# Altium footprint library ICs And Semiconductors SMD.PcbLib: 35 footprints (part 1 of 3)
Each footprint in its own frame and in the unit in brackets; x right, y up, seen from the top. Pads: shape width x height; smd on the part's side, far side on the other; paste and mask are expansions set on the pad; w line width, h text height; cw(c..) or ccw(c..) is an arc to the next point about the centre after c.
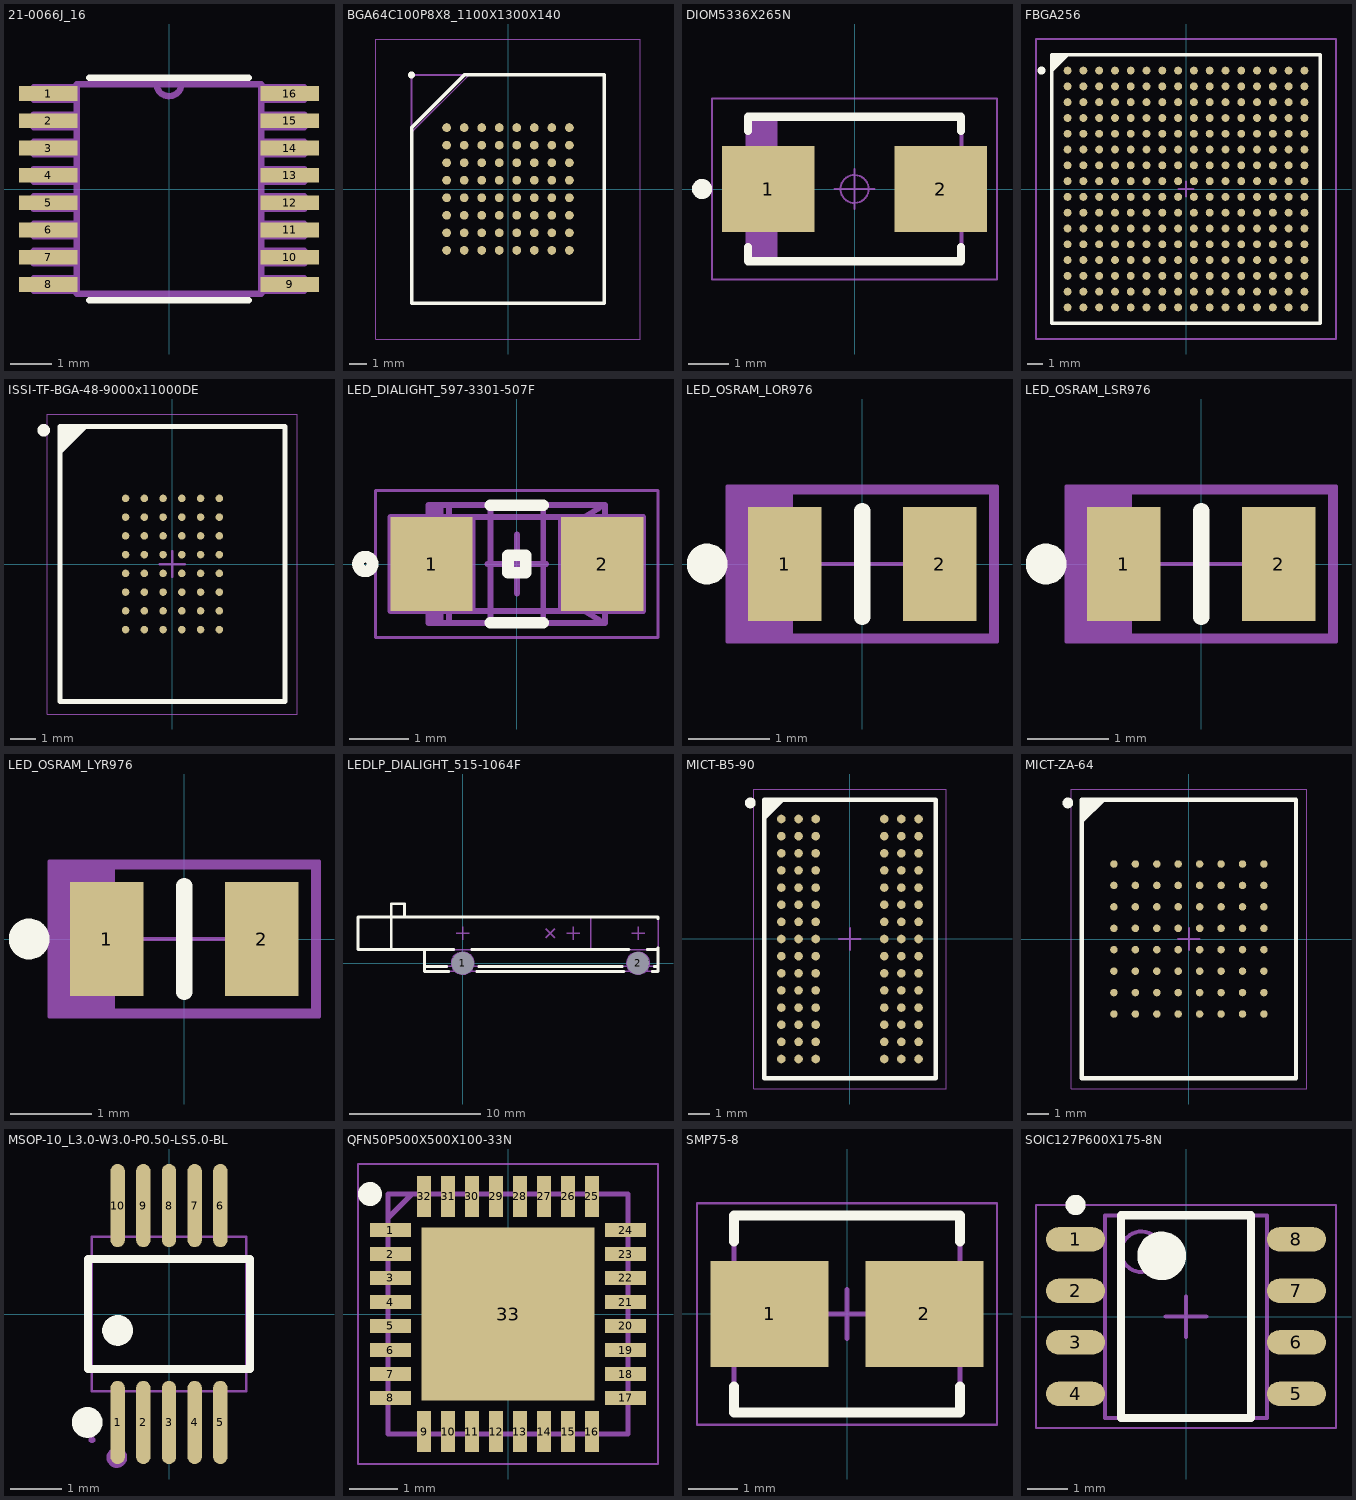
[diagram p0: the footprints below, top view; thin cyan lines are the x and y axes]

## 21-0066J_16 [mil]
pads (16):
  rect 56x14 smd: 1(-115,91) 2(-115,65) 3(-115,39) 4(-115,13) 5(-115,-13) 6(-115,-39) 7(-115,-65) 8(-115,-91) 9(115,-91) 10(115,-65) 11(115,-39) 12(115,-13) 13(115,13) 14(115,39) 15(115,65) 16(115,91)
Top Overlay:
  lines w6: -76,-106 76,-106 ; -76,106 76,106
Mechanical 13:
  lines w6: -12,100.08 ccw(c0,100.5) 12,100.92 ; -129,-97 -129,-85 -88,-85 -88,-97 -129,-97 ; -129,-71 -129,-59 -88,-59 -88,-71 -129,-71 ; -129,-45 -129,-33 -88,-33 -88,-45 -129,-45 ; -129,-19 -129,-7 -88,-7 -88,-19 -129,-19 ; -129,7 -129,19 -88,19 -88,7 -129,7 ; -129,33 -129,45 -88,45 -88,33 -129,33 ; -129,59 -129,71 -88,71 -88,59 -129,59 ; -129,85 -129,97 -88,97 -88,85 -129,85 ; -88,-100 88,-100 88,100 -12,100 -88,100 -88,-100 ; 88,-97 88,-85 129,-85 129,-97 88,-97 ; 88,-71 88,-59 129,-59 129,-71 88,-71 ; 88,-45 88,-33 129,-33 129,-45 88,-45 ; 88,-19 88,-7 129,-7 129,-19 88,-19 ; 88,7 88,19 129,19 129,7 88,7 ; 88,33 88,45 129,45 129,33 88,33 ; 88,59 88,71 129,71 129,59 88,59 ; 88,85 88,97 129,97 129,85 88,85
3D body "step_temp.STEP": height 43.31, standoff 0, extent -125.98,-98.43 125.98,98.43

## BGA64C100P8X8_1100X1300X140 [mm]
pads (64):
  round 0.5 smd: A1(-3.5,3.5) A2(-2.5,3.5) A3(-1.5,3.5) A4(-0.5,3.5) A5(0.5,3.5) A6(1.5,3.5) A7(2.5,3.5) A8(3.5,3.5) B1(-3.5,2.5) B2(-2.5,2.5) B3(-1.5,2.5) B4(-0.5,2.5) B5(0.5,2.5) B6(1.5,2.5) B7(2.5,2.5) B8(3.5,2.5) C1(-3.5,1.5) C2(-2.5,1.5) C3(-1.5,1.5) C4(-0.5,1.5) C5(0.5,1.5) C6(1.5,1.5) C7(2.5,1.5) C8(3.5,1.5) D1(-3.5,0.5) D2(-2.5,0.5) D3(-1.5,0.5) D4(-0.5,0.5) D5(0.5,0.5) D6(1.5,0.5) D7(2.5,0.5) D8(3.5,0.5) E1(-3.5,-0.5) E2(-2.5,-0.5) E3(-1.5,-0.5) E4(-0.5,-0.5) E5(0.5,-0.5) E6(1.5,-0.5) E7(2.5,-0.5) E8(3.5,-0.5) F1(-3.5,-1.5) F2(-2.5,-1.5) F3(-1.5,-1.5) F4(-0.5,-1.5) F5(0.5,-1.5) F6(1.5,-1.5) F7(2.5,-1.5) F8(3.5,-1.5) G1(-3.5,-2.5) G2(-2.5,-2.5) G3(-1.5,-2.5) G4(-0.5,-2.5) G5(0.5,-2.5) G6(1.5,-2.5) G7(2.5,-2.5) G8(3.5,-2.5) H1(-3.5,-3.5) H2(-2.5,-3.5) H3(-1.5,-3.5) H4(-0.5,-3.5) H5(0.5,-3.5) H6(1.5,-3.5) H7(2.5,-3.5) H8(3.5,-3.5)
Top Overlay:
  circle w0.2: c-5.5,6.5 r0.1
  lines w0.2: -5.5,-6.5 -5.5,3.5 -2.5,6.5 5.5,6.5 5.5,-6.5 -5.5,-6.5
Mechanical 15:
  lines w0.1: -5.5,3.225 -2.225,6.5 ; -5.5,-6.5 -5.5,6.5 5.5,6.5 5.5,-6.5 -5.5,-6.5
Mechanical 20:
  lines w0.05: -7.55,-8.55 -7.55,8.55 7.55,8.55 7.55,-8.55 -7.55,-8.55
3D body "MT28EW256ABA1HPC-0SIT.stp": height 1.4, standoff 0, extent -5.5,-6.475 5.5,6.525

## DIOM5336X265N [mm] "DO-214-AA/SMB Diode, Molded Body; 5.34mm L X 3.625mm W X 2.65mm H, IPC Medium Density"
height 2.65
pads (2):
  rect 2.3x2.15 smd: 1(-2.15,0) 2(2.15,0)
Top Overlay:
  circle w0.25: c-3.8,0 r0.125
  lines w0.2: -2.65,-1.45 -2.65,-1.8 2.65,-1.8 2.65,-1.45 ; -2.65,1.45 -2.65,1.8 2.65,1.8 2.65,1.45
Mechanical 14:
  lines w0.1: -2.57,-1.812 -2.57,1.812 ; -2.47,-1.812 -2.47,1.812 ; -2.37,-1.812 -2.37,1.812 ; -2.27,-1.812 -2.27,1.812 ; -2.17,-1.812 -2.17,1.812 ; -2.07,-1.812 -2.07,1.812 ; -1.97,-1.812 -1.97,1.812 ; -2.67,-1.812 2.67,-1.812 2.67,1.812 -2.67,1.812 ; -2.67,-1.812 -2.67,1.812 ; -2.67,-1.812 -2.67,1.812
Mechanical 15:
  circle w0.05: c0,0 r0.35
  lines w0.05: -0.5,0 0.5,0 ; 0,-0.5 0,0.5 ; -3.55,-2.25 3.55,-2.25 3.55,2.25 -3.55,2.25 -3.55,-2.25
3D body "DIOM5336X240N.stp": height 2.4, standoff 0, extent -2.7,-1.95 2.7,1.95

## FBGA256 [mm] "256-Ball FineLine Ball Grid Array (FBGA256) - Option 1"
height 2.2
pads (256):
  round 0.5 smd: A1(-7.5,7.5) A2(-6.5,7.5) A3(-5.5,7.5) A4(-4.5,7.5) A5(-3.5,7.5) A6(-2.5,7.5) A7(-1.5,7.5) A8(-0.5,7.5) A9(0.5,7.5) A10(1.5,7.5) A11(2.5,7.5) A12(3.5,7.5) A13(4.5,7.5) A14(5.5,7.5) A15(6.5,7.5) A16(7.5,7.5) B1(-7.5,6.5) B2(-6.5,6.5) B3(-5.5,6.5) B4(-4.5,6.5) B5(-3.5,6.5) B6(-2.5,6.5) B7(-1.5,6.5) B8(-0.5,6.5) B9(0.5,6.5) B10(1.5,6.5) B11(2.5,6.5) B12(3.5,6.5) B13(4.5,6.5) B14(5.5,6.5) B15(6.5,6.5) B16(7.5,6.5) C1(-7.5,5.5) C2(-6.5,5.5) C3(-5.5,5.5) C4(-4.5,5.5) C5(-3.5,5.5) C6(-2.5,5.5) C7(-1.5,5.5) C8(-0.5,5.5) C9(0.5,5.5) C10(1.5,5.5) C11(2.5,5.5) C12(3.5,5.5) C13(4.5,5.5) C14(5.5,5.5) C15(6.5,5.5) C16(7.5,5.5) D1(-7.5,4.5) D2(-6.5,4.5) D3(-5.5,4.5) D4(-4.5,4.5) D5(-3.5,4.5) D6(-2.5,4.5) D7(-1.5,4.5) D8(-0.5,4.5) D9(0.5,4.5) D10(1.5,4.5) D11(2.5,4.5) D12(3.5,4.5) D13(4.5,4.5) D14(5.5,4.5) D15(6.5,4.5) D16(7.5,4.5) E1(-7.5,3.5) E2(-6.5,3.5) E3(-5.5,3.5) E4(-4.5,3.5) E5(-3.5,3.5) E6(-2.5,3.5) E7(-1.5,3.5) E8(-0.5,3.5) E9(0.5,3.5) E10(1.5,3.5) E11(2.5,3.5) E12(3.5,3.5) E13(4.5,3.5) E14(5.5,3.5) E15(6.5,3.5) E16(7.5,3.5) F1(-7.5,2.5) F2(-6.5,2.5) F3(-5.5,2.5) F4(-4.5,2.5) F5(-3.5,2.5) F6(-2.5,2.5) F7(-1.5,2.5) F8(-0.5,2.5) F9(0.5,2.5) F10(1.5,2.5) F11(2.5,2.5) F12(3.5,2.5) F13(4.5,2.5) F14(5.5,2.5) F15(6.5,2.5) F16(7.5,2.5) G1(-7.5,1.5) G2(-6.5,1.5) G3(-5.5,1.5) G4(-4.5,1.5) G5(-3.5,1.5) G6(-2.5,1.5) G7(-1.5,1.5) G8(-0.5,1.5) G9(0.5,1.5) G10(1.5,1.5) G11(2.5,1.5) G12(3.5,1.5) G13(4.5,1.5) G14(5.5,1.5) G15(6.5,1.5) G16(7.5,1.5) H1(-7.5,0.5) H2(-6.5,0.5) H3(-5.5,0.5) H4(-4.5,0.5) H5(-3.5,0.5) H6(-2.5,0.5) H7(-1.5,0.5) H8(-0.5,0.5) H9(0.5,0.5) H10(1.5,0.5) H11(2.5,0.5) H12(3.5,0.5) H13(4.5,0.5) H14(5.5,0.5) H15(6.5,0.5) H16(7.5,0.5) J1(-7.5,-0.5) J2(-6.5,-0.5) J3(-5.5,-0.5) J4(-4.5,-0.5) J5(-3.5,-0.5) J6(-2.5,-0.5) J7(-1.5,-0.5) J8(-0.5,-0.5) J9(0.5,-0.5) J10(1.5,-0.5) J11(2.5,-0.5) J12(3.5,-0.5) J13(4.5,-0.5) J14(5.5,-0.5) J15(6.5,-0.5) J16(7.5,-0.5) K1(-7.5,-1.5) K2(-6.5,-1.5) K3(-5.5,-1.5) K4(-4.5,-1.5) K5(-3.5,-1.5) K6(-2.5,-1.5) K7(-1.5,-1.5) K8(-0.5,-1.5) K9(0.5,-1.5) K10(1.5,-1.5) K11(2.5,-1.5) K12(3.5,-1.5) K13(4.5,-1.5) K14(5.5,-1.5) K15(6.5,-1.5) K16(7.5,-1.5) L1(-7.5,-2.5) L2(-6.5,-2.5) L3(-5.5,-2.5) L4(-4.5,-2.5) L5(-3.5,-2.5) L6(-2.5,-2.5) L7(-1.5,-2.5) L8(-0.5,-2.5) L9(0.5,-2.5) L10(1.5,-2.5) L11(2.5,-2.5) L12(3.5,-2.5) L13(4.5,-2.5) L14(5.5,-2.5) L15(6.5,-2.5) L16(7.5,-2.5) M1(-7.5,-3.5) M2(-6.5,-3.5) M3(-5.5,-3.5) M4(-4.5,-3.5) M5(-3.5,-3.5) M6(-2.5,-3.5) M7(-1.5,-3.5) M8(-0.5,-3.5) M9(0.5,-3.5) M10(1.5,-3.5) M11(2.5,-3.5) M12(3.5,-3.5) M13(4.5,-3.5) M14(5.5,-3.5) M15(6.5,-3.5) M16(7.5,-3.5) N1(-7.5,-4.5) N2(-6.5,-4.5) N3(-5.5,-4.5) N4(-4.5,-4.5) N5(-3.5,-4.5) N6(-2.5,-4.5) N7(-1.5,-4.5) N8(-0.5,-4.5) N9(0.5,-4.5) N10(1.5,-4.5) N11(2.5,-4.5) N12(3.5,-4.5) N13(4.5,-4.5) N14(5.5,-4.5) N15(6.5,-4.5) N16(7.5,-4.5) P1(-7.5,-5.5) P2(-6.5,-5.5) P3(-5.5,-5.5) P4(-4.5,-5.5) P5(-3.5,-5.5) P6(-2.5,-5.5) P7(-1.5,-5.5) P8(-0.5,-5.5) P9(0.5,-5.5) P10(1.5,-5.5) P11(2.5,-5.5) P12(3.5,-5.5) P13(4.5,-5.5) P14(5.5,-5.5) P15(6.5,-5.5) P16(7.5,-5.5) R1(-7.5,-6.5) R2(-6.5,-6.5) R3(-5.5,-6.5) R4(-4.5,-6.5) R5(-3.5,-6.5) R6(-2.5,-6.5) R7(-1.5,-6.5) R8(-0.5,-6.5) R9(0.5,-6.5) R10(1.5,-6.5) R11(2.5,-6.5) R12(3.5,-6.5) R13(4.5,-6.5) R14(5.5,-6.5) R15(6.5,-6.5) R16(7.5,-6.5) T1(-7.5,-7.5) T2(-6.5,-7.5) T3(-5.5,-7.5) T4(-4.5,-7.5) T5(-3.5,-7.5) T6(-2.5,-7.5) T7(-1.5,-7.5) T8(-0.5,-7.5) T9(0.5,-7.5) T10(1.5,-7.5) T11(2.5,-7.5) T12(3.5,-7.5) T13(4.5,-7.5) T14(5.5,-7.5) T15(6.5,-7.5) T16(7.5,-7.5)
Top Overlay:
  circle w0.25: c-9.15,7.5 r0.125
  region: -7.5,8.5 -8.5,7.5 -8.5,8.5
  lines w0.2: -8.5,7.5 -7.5,8.5 ; -8.5,-8.5 -8.5,8.5 8.5,8.5 8.5,-8.5 -8.5,-8.5
Mechanical 13:
  lines w0.1: -8.5,-8.5 -8.5,8.5 8.5,8.5 8.5,-8.5 -8.5,-8.5
Mechanical 15:
  lines w0.1: -0.5,0 0.5,0 ; 0,-0.5 0,0.5 ; -9.5,-9.5 -9.5,9.5 9.5,9.5 9.5,-9.5 -9.5,-9.5
3D body: height 2.2, standoff 0, extent -8.5,-8.5 8.5,8.5

## ISSI-TF-BGA-48-9000x11000DE [mm] "BGA, 48-Balls, Body 11x9mm, Pitch 0.75mm"
height 1.2
pads (48):
  round 0.3 smd: A1(-1.875,2.625) A2(-1.125,2.625) A3(-0.375,2.625) A4(0.375,2.625) A5(1.125,2.625) A6(1.875,2.625) B1(-1.875,1.875) B2(-1.125,1.875) B3(-0.375,1.875) B4(0.375,1.875) B5(1.125,1.875) B6(1.875,1.875) C1(-1.875,1.125) C2(-1.125,1.125) C3(-0.375,1.125) C4(0.375,1.125) C5(1.125,1.125) C6(1.875,1.125) D1(-1.875,0.375) D2(-1.125,0.375) D3(-0.375,0.375) D4(0.375,0.375) D5(1.125,0.375) D6(1.875,0.375) E1(-1.875,-0.375) E2(-1.125,-0.375) E3(-0.375,-0.375) E4(0.375,-0.375) E5(1.125,-0.375) E6(1.875,-0.375) F1(-1.875,-1.125) F2(-1.125,-1.125) F3(-0.375,-1.125) F4(0.375,-1.125) F5(1.125,-1.125) F6(1.875,-1.125) G1(-1.875,-1.875) G2(-1.125,-1.875) G3(-0.375,-1.875) G4(0.375,-1.875) G5(1.125,-1.875) G6(1.875,-1.875) H1(-1.875,-2.625) H2(-1.125,-2.625) H3(-0.375,-2.625) H4(0.375,-2.625) H5(1.125,-2.625) H6(1.875,-2.625)
Top Overlay:
  circle w0.25: c-5.15,5.35 r0.125
  region: -3.5,5.5 -4.5,4.5 -4.5,5.5
  lines w0.2: -4.5,4.5 -3.5,5.5 ; -4.5,-5.5 -4.5,5.5 4.5,5.5 4.5,-5.5 -4.5,-5.5
Mechanical 13:
  lines w0.1: -4.5,-5.5 -4.5,5.5 4.5,5.5 4.5,-5.5 -4.5,-5.5
Mechanical 15:
  lines w0.05: -5,-6 -5,6 5,6 5,-6 -5,-6
  lines w0.1: -0.5,0 0.5,0 ; 0,-0.5 0,0.5
3D body: height 1.2, standoff 0.2, extent -4.5,-5.5 4.5,5.5

## LED_DIALIGHT_597-3301-507F [mm] "SMT Green LED, Body 3x1.6mm (1208),  DIALIGHT 597 Serie"
height 1.5
pads (2):
  rect 1.4x1.6 smd: 1(-1.45,0) 2(1.45,0)
Top Overlay:
  circle w0.2: c-2.575,0 r0.125
  lines w0.2: -0.45,-1 0.45,-1 ; -0.45,1 0.45,1 ; -0.15,-0.15 0.15,-0.15 0.15,0.15 -0.15,0.15 -0.15,-0.15
Mechanical 8:
  lines w0.1: -1.95,0 -1.45,0 ; -1.45,-0.5 -1.45,0 ; -1.45,0.5 -1.45,0 ; -0.95,0 -1.45,0 ; -0.5,0 0,0 ; -0.45,-1 -0.45,1 ; 0,-0.5 0,0 ; 0,0.5 0,0 ; 0.45,-1 0.45,1 ; 0.5,0 0,0 ; 0.95,0 1.45,0 ; 1.45,-0.5 1.45,0 ; 1.45,0.5 1.45,0 ; 1.95,0 1.45,0 ; -2.15,-0.8 -0.75,-0.8 -0.75,0.8 -2.15,0.8 -2.15,-0.8 ; 0.75,-0.8 2.15,-0.8 2.15,0.8 0.75,0.8 0.75,-0.8
Mechanical 14:
  lines w0.1: -1.4,-1 -1.4,1 ; -1.3,-1 -1.3,1 ; -1.15,-0.95 -1.15,0.95 ; -1.15,-0.8 1.15,-0.8 ; -1.15,0.8 1.15,0.8 ; 1.4,-0.95 1.15,-0.8 ; 1.4,0.95 1.15,0.8 ; 1.15,-0.8 1.15,0.8 ; -1.5,-1 1.5,-1 1.5,1 -1.5,1 -1.5,-1 ; -0.15,-0.15 0.15,-0.15 0.15,0.15 -0.15,0.15 -0.15,-0.15
Mechanical 15:
  lines w0.05: -2.4,-1.25 2.4,-1.25 2.4,1.25 -2.4,1.25 -2.4,-1.25
3D body "LED_DIALIGHT_597-3301-507F.stp": height 1.5, standoff 0, extent -1.5,-1 1.5,1

## LED_OSRAM_LOR976 [mm] "Orange Chip LED, 2-Leads, Body 2.0x1.25mm, IPC Medium Density"
height 0.9
pads (2):
  rect 0.9x1.4 smd: 1(-0.95,0) 2(0.95,0)
Top Overlay:
  circle w0.25: c-1.9,0 r0.125
  lines w0.2: 0,-0.65 0,0.65
Mechanical 14:
  lines w0.1: -1.5,-0.9 -1.5,0.9 ; -1.4,-0.9 -1.4,0.9 ; -1.3,-0.9 -1.3,0.9 ; -1.2,-0.9 -1.2,0.9 ; -1.1,-0.9 -1.1,0.9 ; -1,-0.9 -1,0.9 ; -0.9,-0.9 -0.9,0.9 ; -1.6,-0.9 -1.6,0.9 1.6,0.9 1.6,-0.9 -1.6,-0.9
Mechanical 15:
  lines w0.05: -0.5,0 0.5,0 ; 0,-0.5 0,0.5 ; -1.65,-0.95 -1.65,0.95 1.65,0.95 1.65,-0.95 -1.65,-0.95
3D body "LED_OSRAM_LOR976.stp": height 0.9, standoff 0, extent -1.05,-0.675 1.05,0.675

## LED_OSRAM_LSR976 [mm] "Super Red Chip LED, 2-Leads, Body 2.0x1.25mm, IPC Medium Density"
height 0.9
pads (2):
  rect 0.9x1.4 smd: 1(-0.95,0) 2(0.95,0)
Top Overlay:
  circle w0.25: c-1.9,0 r0.125
  lines w0.2: 0,-0.65 0,0.65
Mechanical 14:
  lines w0.1: -1.5,-0.9 -1.5,0.9 ; -1.4,-0.9 -1.4,0.9 ; -1.3,-0.9 -1.3,0.9 ; -1.2,-0.9 -1.2,0.9 ; -1.1,-0.9 -1.1,0.9 ; -1,-0.9 -1,0.9 ; -0.9,-0.9 -0.9,0.9 ; -1.6,-0.9 1.6,-0.9 1.6,0.9 -1.6,0.9 -1.6,-0.9
Mechanical 15:
  lines w0.05: -0.5,0 0.5,0 ; 0,-0.5 0,0.5 ; -1.65,-0.95 1.65,-0.95 1.65,0.95 -1.65,0.95 -1.65,-0.95
3D body "LED_OSRAM_LSR976.stp": height 0.9, standoff 0, extent -1.05,-0.675 1.05,0.675

## LED_OSRAM_LYR976 [mm] "Yellow Chip LED, 2-Leads, Body 2.0x1.25mm, IPC Medium Density"
height 0.9
pads (2):
  rect 0.9x1.4 smd: 1(-0.95,0) 2(0.95,0)
Top Overlay:
  circle w0.25: c-1.9,0 r0.125
  lines w0.2: 0,-0.65 0,0.65
Mechanical 14:
  lines w0.1: -1.5,-0.9 -1.5,0.9 ; -1.4,-0.9 -1.4,0.9 ; -1.3,-0.9 -1.3,0.9 ; -1.2,-0.9 -1.2,0.9 ; -1.1,-0.9 -1.1,0.9 ; -1,-0.9 -1,0.9 ; -0.9,-0.9 -0.9,0.9 ; -1.6,-0.9 1.6,-0.9 1.6,0.9 -1.6,0.9 -1.6,-0.9
Mechanical 15:
  lines w0.05: -0.5,0 0.5,0 ; 0,-0.5 0,0.5 ; -1.65,-0.95 1.65,-0.95 1.65,0.95 -1.65,0.95 -1.65,-0.95
3D body "LED_OSRAM_LYR976.stp": height 0.9, standoff 0, extent -1.05,-0.675 1.05,0.675

## LEDLP_DIALIGHT_515-1064F [mm] "Right Angle Tri-Level 2.5mm Round Light Pipe, Body 22.9 x5.22mm"
height 13.7
pads (2):
  round 1 hole 1.7 unplated mask+0.35: 1(0,0) 2(13.41,0)
Top Overlay:
  lines w0.2: -5.462,1.041 -5.462,4.547 -4.446,4.547 -4.446,3.531 ; -2.922,-0.254 -1.224,-0.254 ; -1.077,-0.635 -2.922,-0.635 -2.922,1.041 ; -0.691,1.041 -2.922,1.041 ; 0.691,1.041 12.719,1.041 ; 1.077,-0.635 12.333,-0.635 ; 1.224,-0.254 12.186,-0.254 ; 14.101,1.041 14.934,1.041 ; 14.487,-0.635 14.934,-0.635 14.934,1.19 ; 14.634,-0.254 14.934,-0.254 ; 14.934,3.39 14.934,3.531 -8.002,3.531 -8.002,1.041 -2.922,1.041
Mechanical 8:
  circle w0.1: c0,0 r0.85
  circle w0.1: c13.41,0 r0.85
  lines w0.1: -0.5,0 0,0 ; -0.5,2.29 0,2.29 ; 0,-0.5 0,0 ; 0,0.5 0,0 ; 0,1.79 0,2.29 ; 0,2.79 0,2.29 ; 0.5,0 0,0 ; 0.5,2.29 0,2.29 ; 6.351,1.936 6.704,2.29 ; 6.351,2.644 6.704,2.29 ; 7.058,1.936 6.704,2.29 ; 7.058,2.644 6.704,2.29 ; 7.96,2.29 8.46,2.29 ; 8.46,1.79 8.46,2.29 ; 8.46,2.79 8.46,2.29 ; 8.96,2.29 8.46,2.29 ; 12.91,0 13.41,0 ; 12.91,2.29 13.41,2.29 ; 13.41,-0.5 13.41,0 ; 13.41,0.5 13.41,0 ; 13.41,1.79 13.41,2.29 ; 13.41,2.79 13.41,2.29 ; 13.91,0 13.41,0 ; 13.91,2.29 13.41,2.29
Mechanical 14:
  lines w0.1: -5.462,1.041 -5.462,4.547 -4.446,4.547 -4.446,3.531 ; -2.922,-0.254 14.934,-0.254 ; 9.783,1.041 9.783,3.531 ; 14.934,1.041 -2.922,1.041 ; -2.922,1.041 -2.922,-0.635 14.934,-0.635 14.934,3.531 -8.002,3.531 -8.002,1.041 -2.922,1.041
3D body "LEDLP_DIALIGHT_515-1064F.stp": height 13.69, standoff -2.87, extent -8.002,-0.635 14.934,4.547

## MICT-B5-90 [mm] "BGA, 90-Balls, Body 13x8mm, Pitch 0.8mm"
height 1
pads (90):
  round 0.4 smd: A1(-3.2,5.6) A2(-2.4,5.6) A3(-1.6,5.6) A7(1.6,5.6) A8(2.4,5.6) A9(3.2,5.6) B1(-3.2,4.8) B2(-2.4,4.8) B3(-1.6,4.8) B7(1.6,4.8) B8(2.4,4.8) B9(3.2,4.8) C1(-3.2,4) C2(-2.4,4) C3(-1.6,4) C7(1.6,4) C8(2.4,4) C9(3.2,4) D1(-3.2,3.2) D2(-2.4,3.2) D3(-1.6,3.2) D7(1.6,3.2) D8(2.4,3.2) D9(3.2,3.2) E1(-3.2,2.4) E2(-2.4,2.4) E3(-1.6,2.4) E7(1.6,2.4) E8(2.4,2.4) E9(3.2,2.4) F1(-3.2,1.6) F2(-2.4,1.6) F3(-1.6,1.6) F7(1.6,1.6) F8(2.4,1.6) F9(3.2,1.6) G1(-3.2,0.8) G2(-2.4,0.8) G3(-1.6,0.8) G7(1.6,0.8) G8(2.4,0.8) G9(3.2,0.8) H1(-3.2,0) H2(-2.4,0) H3(-1.6,0) H7(1.6,0) H8(2.4,0) H9(3.2,0) J1(-3.2,-0.8) J2(-2.4,-0.8) J3(-1.6,-0.8) J7(1.6,-0.8) J8(2.4,-0.8) J9(3.2,-0.8) K1(-3.2,-1.6) K2(-2.4,-1.6) K3(-1.6,-1.6) K7(1.6,-1.6) K8(2.4,-1.6) K9(3.2,-1.6) L1(-3.2,-2.4) L2(-2.4,-2.4) L3(-1.6,-2.4) L7(1.6,-2.4) L8(2.4,-2.4) L9(3.2,-2.4) M1(-3.2,-3.2) M2(-2.4,-3.2) M3(-1.6,-3.2) M7(1.6,-3.2) M8(2.4,-3.2) M9(3.2,-3.2) N1(-3.2,-4) N2(-2.4,-4) N3(-1.6,-4) N7(1.6,-4) N8(2.4,-4) N9(3.2,-4) P1(-3.2,-4.8) P2(-2.4,-4.8) P3(-1.6,-4.8) P7(1.6,-4.8) P8(2.4,-4.8) P9(3.2,-4.8) R1(-3.2,-5.6) R2(-2.4,-5.6) R3(-1.6,-5.6) R7(1.6,-5.6) R8(2.4,-5.6) R9(3.2,-5.6)
Top Overlay:
  circle w0.25: c-4.65,6.35 r0.125
  region: -3.149,6.5 -4,5.649 -4,6.5
  lines w0.2: -4,5.649 -3.149,6.5 ; -4,-6.5 -4,6.5 4,6.5 4,-6.5 -4,-6.5
Mechanical 13:
  lines w0.1: -4,-6.5 -4,6.5 4,6.5 4,-6.5 -4,-6.5
Mechanical 15:
  lines w0.05: -4.5,-7 -4.5,7 4.5,7 4.5,-7 -4.5,-7
  lines w0.1: -0.5,0 0.5,0 ; 0,-0.5 0,0.5
3D body: height 1, standoff 0.3, extent -4,-6.5 4,6.5

## MICT-ZA-64 [mm] "BGA, 64-Balls, Body 13x10mm, Pitch 1mm"
pads (64):
  round 0.35 smd: A1(-3.5,3.5) A2(-2.5,3.5) A3(-1.5,3.5) A4(-0.5,3.5) A5(0.5,3.5) A6(1.5,3.5) A7(2.5,3.5) A8(3.5,3.5) B1(-3.5,2.5) B2(-2.5,2.5) B3(-1.5,2.5) B4(-0.5,2.5) B5(0.5,2.5) B6(1.5,2.5) B7(2.5,2.5) B8(3.5,2.5) C1(-3.5,1.5) C2(-2.5,1.5) C3(-1.5,1.5) C4(-0.5,1.5) C5(0.5,1.5) C6(1.5,1.5) C7(2.5,1.5) C8(3.5,1.5) D1(-3.5,0.5) D2(-2.5,0.5) D3(-1.5,0.5) D4(-0.5,0.5) D5(0.5,0.5) D6(1.5,0.5) D7(2.5,0.5) D8(3.5,0.5) E1(-3.5,-0.5) E2(-2.5,-0.5) E3(-1.5,-0.5) E4(-0.5,-0.5) E5(0.5,-0.5) E6(1.5,-0.5) E7(2.5,-0.5) E8(3.5,-0.5) F1(-3.5,-1.5) F2(-2.5,-1.5) F3(-1.5,-1.5) F4(-0.5,-1.5) F5(0.5,-1.5) F6(1.5,-1.5) F7(2.5,-1.5) F8(3.5,-1.5) G1(-3.5,-2.5) G2(-2.5,-2.5) G3(-1.5,-2.5) G4(-0.5,-2.5) G5(0.5,-2.5) G6(1.5,-2.5) G7(2.5,-2.5) G8(3.5,-2.5) H1(-3.5,-3.5) H2(-2.5,-3.5) H3(-1.5,-3.5) H4(-0.5,-3.5) H5(0.5,-3.5) H6(1.5,-3.5) H7(2.5,-3.5) H8(3.5,-3.5)
Top Overlay:
  circle w0.25: c-5.65,6.35 r0.125
  region: -4,6.5 -5,5.5 -5,6.5
  lines w0.2: -5,5.5 -4,6.5 ; -5,-6.5 5,-6.5 5,6.5 -5,6.5 -5,-6.5
Mechanical 13:
  lines w0.1: -5,-6.5 5,-6.5 5,6.5 -5,6.5 -5,-6.5
Mechanical 15:
  lines w0.05: -5.5,-7 5.5,-7 5.5,7 -5.5,7 -5.5,-7
  lines w0.1: -0.5,0 0.5,0 ; 0,-0.5 0,0.5
3D body: height 0.2, standoff 0, extent -5,-6.5 5,6.5

## MSOP-10_L3.0-W3.0-P0.50-LS5.0-BL [mm]
pads (10):
  oval 0.28x1.62 smd: 1(-1,-2.11) 2(-0.5,-2.11) 3(0,-2.11) 4(0.5,-2.11) 5(1,-2.11) 6(1,2.11) 7(0.5,2.11) 8(0,2.11) 9(-0.5,2.11) 10(-1,2.11)
Top Overlay:
  circle w0.3: c-1,-0.319 r0.15
  circle w0.3: c-1.592,-2.11 r0.15
  lines w0.152: -1.576,-1.071 -1.576,1.071 1.576,1.071 1.576,-1.071 -1.576,-1.071
Mechanical 6:
  circle w0.2: c-1.016,-2.794 r0.1
Mechanical 15:
  region: -1.44,-2.45 -1.44,-2.425 -1.475,-2.39 -1.525,-2.39 -1.56,-2.425 -1.56,-2.45 -1.56,-2.475 -1.525,-2.51 -1.475,-2.51 -1.44,-2.475 -1.44,-2.45
  region: -1.112,-2.45 -1.112,-1.9 -0.888,-1.9 -0.888,-2.45
  region: -1.112,-1.91 -1.112,-1.49 -0.888,-1.49 -0.888,-1.91
  region: -0.612,-2.45 -0.612,-1.9 -0.388,-1.9 -0.388,-2.45
  region: -0.612,-1.91 -0.612,-1.49 -0.388,-1.49 -0.388,-1.91
  region: -0.112,-2.45 -0.112,-1.9 0.112,-1.9 0.112,-2.45
  region: -0.112,-1.91 -0.112,-1.49 0.112,-1.49 0.112,-1.91
  region: 0.388,-2.45 0.388,-1.9 0.612,-1.9 0.612,-2.45
  region: 0.388,-1.91 0.388,-1.49 0.612,-1.49 0.612,-1.91
  region: 0.888,-2.45 0.888,-1.9 1.112,-1.9 1.112,-2.45
  region: 0.888,-1.91 0.888,-1.49 1.112,-1.49 1.112,-1.91
  region: -1.112,2.45 -1.112,1.9 -0.888,1.9 -0.888,2.45
  region: -1.112,1.91 -1.112,1.49 -0.888,1.49 -0.888,1.91
  region: -0.612,2.45 -0.612,1.9 -0.388,1.9 -0.388,2.45
  region: -0.612,1.91 -0.612,1.49 -0.388,1.49 -0.388,1.91
  region: -0.112,2.45 -0.112,1.9 0.112,1.9 0.112,2.45
  region: -0.112,1.91 -0.112,1.49 0.112,1.49 0.112,1.91
  region: 0.388,2.45 0.388,1.9 0.612,1.9 0.612,2.45
  region: 0.388,1.91 0.388,1.49 0.612,1.49 0.612,1.91
  region: 0.888,2.45 0.888,1.9 1.112,1.9 1.112,2.45
  region: 0.888,1.91 0.888,1.49 1.112,1.49 1.112,1.91
  lines w0.051: -1.5,-1.5 -1.5,1.5 1.5,1.5 1.5,-1.5 -1.5,-1.5

## QFN50P500X500X100-33N [mm]
pads (33):
  rect 0.85x0.3 smd: 1(-2.45,1.75) 2(-2.45,1.25) 3(-2.45,0.75) 4(-2.45,0.25) 5(-2.45,-0.25) 6(-2.45,-0.75) 7(-2.45,-1.25) 8(-2.45,-1.75) 17(2.45,-1.75) 18(2.45,-1.25) 19(2.45,-0.75) 20(2.45,-0.25) 21(2.45,0.25) 22(2.45,0.75) 23(2.45,1.25) 24(2.45,1.75)
  rect 0.3x0.85 smd: 9(-1.75,-2.45) 10(-1.25,-2.45) 11(-0.75,-2.45) 12(-0.25,-2.45) 13(0.25,-2.45) 14(0.75,-2.45) 15(1.25,-2.45) 16(1.75,-2.45) 25(1.75,2.45) 26(1.25,2.45) 27(0.75,2.45) 28(0.25,2.45) 29(-0.25,2.45) 30(-0.75,2.45) 31(-1.25,2.45) 32(-1.75,2.45)
  rect 3.6x3.6 smd: 33(0,0)
Top Overlay:
  circle w0.25: c-2.875,2.5 r0.125
Mechanical 13:
  lines w0.1: -2.5,2 -2,2.5 ; -2.5,-2.5 2.5,-2.5 2.5,2.5 -2.5,2.5 -2.5,-2.5
Mechanical 15:
  lines w0.05: -3.125,-3.125 3.125,-3.125 3.125,3.125 -3.125,3.125 -3.125,-3.125
3D body "RTL8201F-VB-CG.stp": height 1, standoff 0, extent -2.55,-2.55 2.55,2.55

## SMP75-8 [mm] "DO214-AA, 2-Leads, Body 4.32x3.63mm, IPC Medium Density"
height 2.5
pads (2):
  rect 2.4x2.15 smd: 1(-1.575,0) 2(1.575,0)
Top Overlay:
  lines w0.2: -2.3,-1.475 -2.3,-2 2.3,-2 2.3,-1.475 ; -2.3,1.475 -2.3,2 2.3,2 2.3,1.475
Mechanical 13:
  lines w0.1: -2.3,-1.975 2.3,-1.975 2.3,1.975 -2.3,1.975 -2.3,-1.975
Mechanical 15:
  lines w0.05: -3.05,-2.25 3.05,-2.25 3.05,2.25 -3.05,2.25 -3.05,-2.25
  lines w0.1: -0.5,0 0.5,0 ; 0,-0.5 0,0.5
3D body "SMP75-8.step": height 2.5, standoff 0, extent -2.52,-1.975 2.52,1.975

## SOIC127P600X175-8N [mm] "SOIC, 8-Leads, Body 4.90x3.90mm, Pitch 1.27mm, IPC Medium Density"
height 1.75
pads (8):
  oval 1.45x0.6 smd: 1(-2.725,1.905) 2(-2.725,0.635) 3(-2.725,-0.635) 4(-2.725,-1.905) 5(2.725,-1.905) 6(2.725,-0.635) 7(2.725,0.635) 8(2.725,1.905)
Top Overlay:
  circle w0.6: c-0.6,1.5 r0.3
  circle w0.25: c-2.725,2.755 r0.125
  lines w0.2: -1.6,-2.5 1.6,-2.5 1.6,2.5 -1.6,2.5 -1.6,-2.5
Mechanical 13:
  circle w0.1: c-1.1,1.6 r0.5
  lines w0.1: -2,-2.5 2,-2.5 2,2.5 -2,2.5 -2,-2.5
Mechanical 15:
  lines w0.05: -3.7,-2.75 3.7,-2.75 3.7,2.75 -3.7,2.75 -3.7,-2.75
  lines w0.1: -0.5,0 0.5,0 ; 0,-0.5 0,0.5
3D body "SOIC127P600X175-8N.step": height 1.75, standoff 0, extent -3,-2.5 3,2.5